# EAGLE library part CONN_1X06_SHX2 (library GPLIB_CONN)
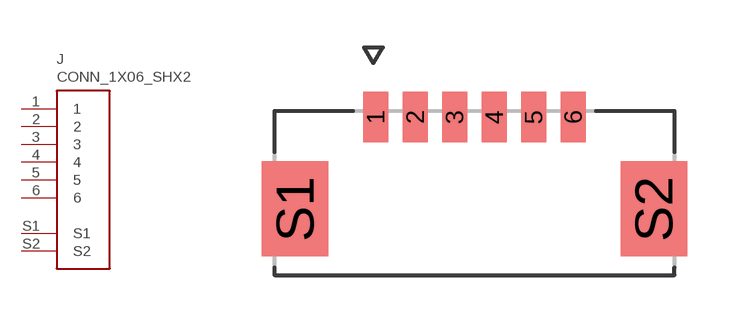
[diagram p5: symbol with the pads of CONN_1X06_1.25MM_SM_RA_MX_532610671; footprint CONN_1X06_1.25MM_SM_RA_MX_532610671]

Designator prefix J

## CONN_1X06_SHX2_1.25MM_SM_RA_MX_532610671  [CONN_1X06_1.25MM_SM_RA_MX_532610671]
1  1  pas
2  2  pas
3  3  pas
4  4  pas
5  5  pas
6  6  pas
S1  S1  pas
S2  S2  pas

## Footprint CONN_1X06_1.25MM_SM_RA_MX_532610671 (pad centres in mm)
smd 0.8 x 1.6: 1 -3.125,2.4; 2 -1.875,2.4; 3 -0.625,2.4; 4 0.625,2.4; 5 1.875,2.4; 6 3.125,2.4
smd 2.1 x 3: S1 -5.675,-0.5; S2 5.675,-0.5